# Altium footprint library C0805.PcbLib: 1 footprints
Each footprint in its own frame and in the unit in brackets; x right, y up, seen from the top. Pads: shape width x height; smd on the part's side, far side on the other; paste and mask are expansions set on the pad; w line width, h text height; cw(c..) or ccw(c..) is an arc to the next point about the centre after c.
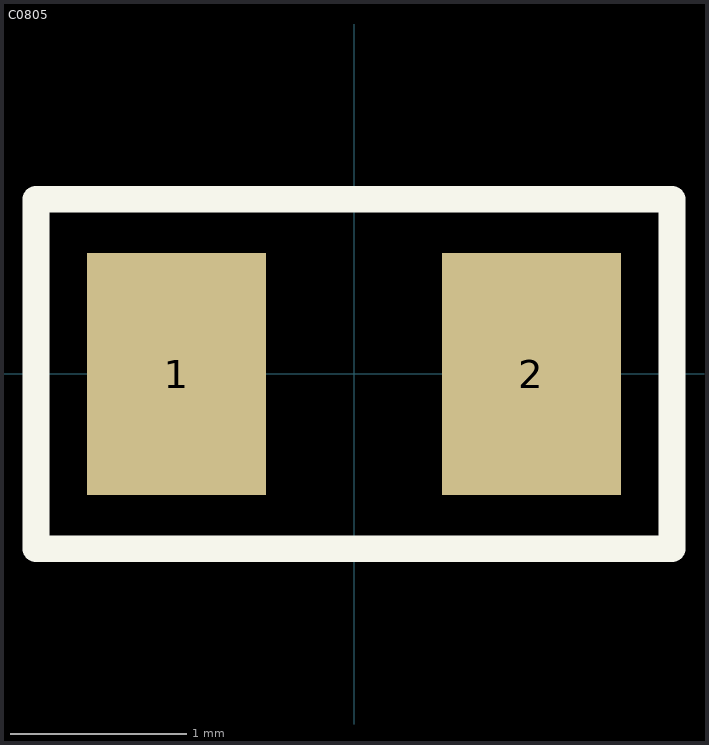
[diagram p0: the footprint, top view; thin cyan lines are the x and y axes]

## C0805 [mil] "Chip Capacitor; Body 2.0 x 1.2 mm (LxW typ)"
height 51.18
pads (2):
  rect 40x54 smd: 1(-39.6,0) 2(39.6,0)
Top Overlay:
  lines w6: -71,-39 -71,39 71,39 71,-39 -71,-39
3D body: height 0, standoff 0, extent -71,-39 71,39
3D body: height 30.79, standoff 0, extent -39.37,-24.6 39.37,24.61